# Altium footprint library D2PAK (TO-263).PcbLib: 1 footprints
Each footprint in its own frame and in the unit in brackets; x right, y up, seen from the top. Pads: shape width x height; smd on the part's side, far side on the other; paste and mask are expansions set on the pad; w line width, h text height; cw(c..) or ccw(c..) is an arc to the next point about the centre after c.
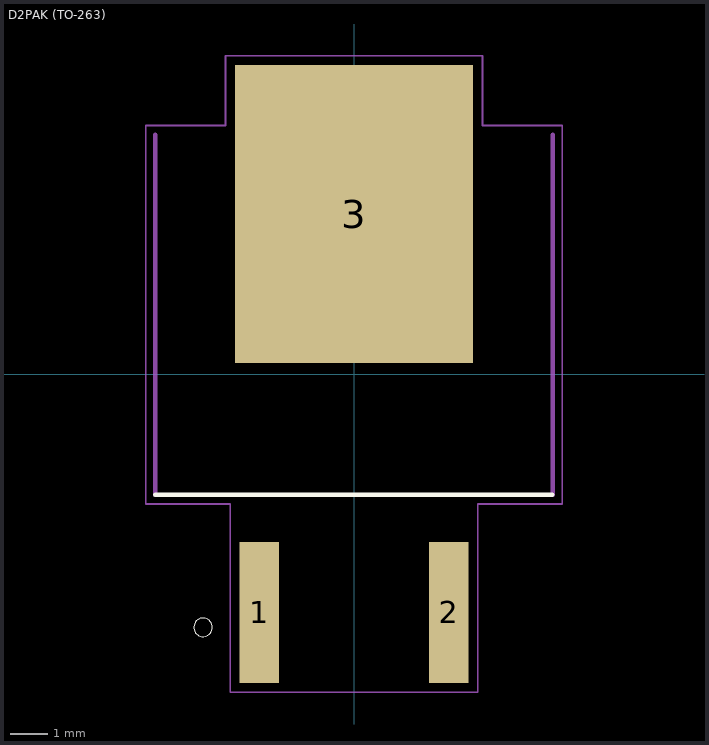
[diagram p0: the footprint, top view; thin cyan lines are the x and y axes]

## D2PAK (TO-263) [mm]
pads (3):
  rect 1.06x3.78 smd: 1(-2.54,-6.4) 2(2.54,-6.4)
  rect 6.39x8 smd paste-5 mask+0: 3(0,4.29)
Top Overlay:
  circle w0: c-4.05,-6.8 r0.25
  lines w0.12: -5.34,-3.24 5.32,-3.24
Top Paste:
  region: 0.8,5.927 -0.804,5.927 -0.804,8.15 0.8,8.15
  region: -1.45,3.162 -3.062,3.162 -3.062,5.4 -1.45,5.4
  region: 0.8,3.16 -0.803,3.16 -0.803,5.4 0.8,5.4
  region: 3.05,3.158 1.454,3.158 1.454,5.4 3.05,5.4
  region: -1.45,0.4 -3.058,0.4 -3.058,2.65 -1.45,2.65
  region: 0.8,0.401 -0.803,0.401 -0.803,2.65 0.8,2.65
  region: 3.05,0.401 1.456,0.401 1.456,2.65 3.05,2.65
  region: -1.45,5.932 -3.066,5.932 -3.066,8.15 -1.45,8.15
  region: 3.05,5.916 1.454,5.916 1.454,8.15 3.05,8.15
Top Solder:
  region: 3.3,0.201 -3.309,0.201 -3.309,8.4 3.3,8.4
Mechanical 13:
  lines w0.12: -5.34,-3.24 -5.34,6.42 ; 5.34,-3.24 5.34,6.42
Mechanical 15:
  lines w0.05: -5.59,-3.49 -5.59,6.67 -3.45,6.67 -3.45,8.54 3.45,8.54 3.45,6.67 5.59,6.67 5.59,-3.49 3.32,-3.49 3.32,-8.54 -3.32,-8.54 -3.32,-3.49 -5.59,-3.49
3D body "IRL530NSTRLPBF.STEP": height 4.83, standoff -0.25, extent -5.08,-7.62 5.08,7.62